# EAGLE library part 610X1621821 (library Eagle_BOARD-TO-BOARD_CONNECTORS (rev18b))
WR-PHD 2.54mm SMT Socket Header=>Code : Con_BTB_SHD_2.54_1_SMT_610x0421821(packageing:x = 0: Tube x = 3: Tape & Reel with Cap; 600 pcs/Reel) <http://katalog.we-online.de/media/images/eican/Con_BTB_SHD_2.54_1_SMT_6100xx21821_pf2.jpg> 6100xx21821 Details see: http://katalog.we-online.de/en/em/PHD_2_54_SMT_DUAL_SOCKET_HEADER_6100XX21821 6103xx21821 Details see: http://katalog.we-online.de/en/em/PHD_2_54_SMT_DUAL_SOCKET_HEADER_REEL_6103XX21821 2014 (C) Würth Elektronik
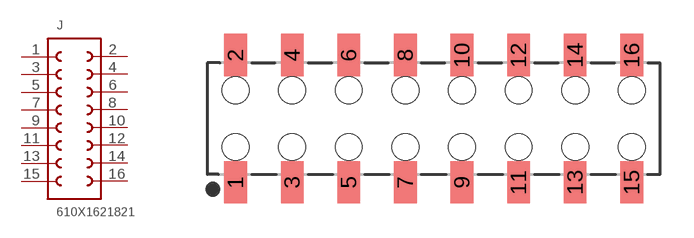
[diagram p206: symbol with the pads of 610X1621821; footprint 610X1621821]

Designator prefix J

## 610X1621821  [610X1621821]
1  1  pas
2  16  pas
3  2  pas
4  15  pas
5  3  pas
6  14  pas
7  4  pas
8  13  pas
9  5  pas
10  12  pas
11  6  pas
12  11  pas
13  7  pas
14  10  pas
15  8  pas
16  9  pas

## Footprint 610X1621821 (pad centres in mm)
WR-PHD 2.54mm Dual SMT Socket Header, 16 Pins
smd 1.02 x 1.9: 1 -8.89,-2.85; 2 -8.89,2.85; 3 -6.35,-2.85; 4 -6.35,2.85; 5 -3.81,-2.85; 6 -3.81,2.85; 7 -1.27,-2.85; 8 -1.27,2.85; 9 1.27,-2.85; 10 1.27,2.85; 11 3.81,-2.85; 12 3.81,2.85; 13 6.35,-2.85; 14 6.35,2.85; 15 8.89,-2.85; 16 8.89,2.85
hole 1.2 at -8.89,-1.27
hole 1.2 at -6.35,-1.27
hole 1.2 at -6.35,1.27
hole 1.2 at -8.89,1.27
hole 1.2 at -3.81,-1.27
hole 1.2 at -3.81,1.27
hole 1.2 at -1.27,1.27
hole 1.2 at -1.27,-1.27
hole 1.2 at 1.27,-1.27
hole 1.2 at 1.27,1.27
hole 1.2 at 3.81,-1.27
hole 1.2 at 3.81,1.27
hole 1.2 at 6.35,1.27
hole 1.2 at 6.35,-1.27
hole 1.2 at 8.89,1.27
hole 1.2 at 8.89,-1.27